# EAGLE library part DPDT-GENERIC-SWITCH-7X7MM (library salvador-parts)
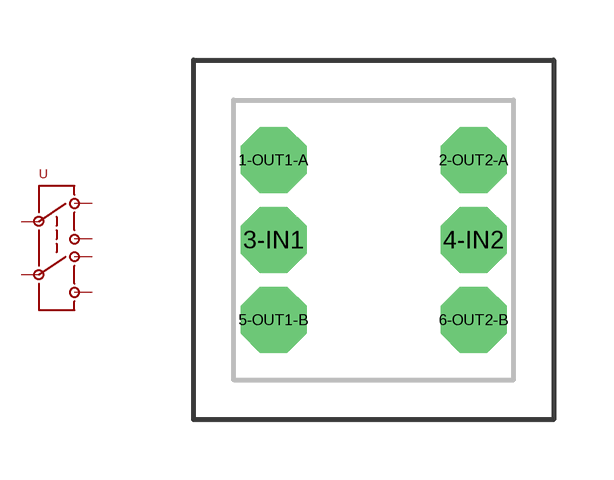
[diagram p0: symbol with the pads of DPDT-PTH-7*7MM; footprint DPDT-PTH-7*7MM]

Designator prefix -

## DPDT-GENERIC-SWITCH-7X7MM  [DPDT-PTH-7*7MM]
1-OUT1-A  OUT1-A  out
2-OUT2-A  OUT2-A  out
3-IN1  IN1  in
4-IN2  IN2  in
5-OUT1-B  OUT1-B  out
6-OUT2-B  OUT2-B  out

## Footprint DPDT-PTH-7*7MM (pad centres in mm)
DPDT Generic Latching Switch 7x7mm
drill 1.1 octagon: 1-OUT1-A -2.5,2; 2-OUT2-A 2.5,2; 3-IN1 -2.5,0; 4-IN2 2.5,0; 5-OUT1-B -2.5,-2; 6-OUT2-B 2.5,-2